# Altium integrated library GCM1885C1H101FA16D.IntLib: 1 symbol
Pins are listed as number, name and electrical type; pins without a type are passive.

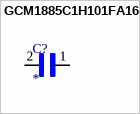
[diagram p0: symbol GCM1885C1H101FA16D]

## GCM1885C1H101FA16D
designator C?
CAP AUTO-GRADE 100PF 50VDC C0G 1% SMD 0603; MP: GCM1885C1H101FA16D; Package: None; Price: None; Value: *; Availability: Unavailable
footprint THERM_NCP18XH103F03RB
pins: 1, 2